# EAGLE library part LM1972 (library Fancy_InternetRadio)
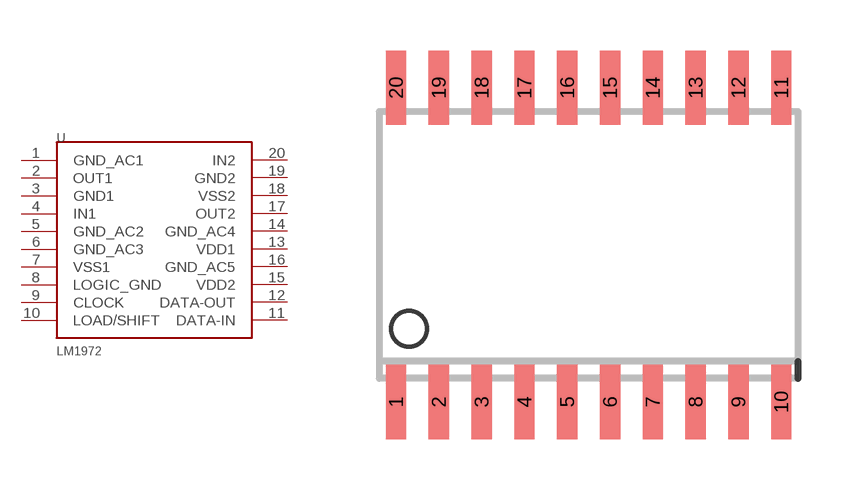
[diagram p1: symbol with the pads of SOIC-20; footprint SOIC-20]

Designator prefix -

## LM1972  [SOIC-20]
1  GND_AC1
2  OUT1
3  GND1
4  IN1
5  GND_AC2
6  GND_AC3
7  VSS1
8  LOGIC_GND
9  CLOCK
10  LOAD/SHIFT
11  DATA-IN
12  DATA-OUT
13  VDD1
14  GND_AC4
15  VDD2
16  GND_AC5
17  OUT2
18  VSS2
19  GND2
20  IN2

## Footprint SOIC-20 (pad centres in mm)
smd 0.6 x 2.2: 1 -5.842,-4.886; 2 -4.572,-4.886; 3 -3.302,-4.886; 4 -2.032,-4.886; 5 -0.762,-4.886; 6 0.508,-4.886; 7 1.778,-4.886; 8 3.048,-4.886; 9 4.318,-4.889; 10 5.588,-4.889; 11 5.588,4.432; 12 4.318,4.432; 13 3.048,4.429; 14 1.778,4.429; 15 0.508,4.429; 16 -0.762,4.429; 17 -2.032,4.429; 18 -3.302,4.429; 19 -4.572,4.429; 20 -5.842,4.429